# EAGLE library part CONNECTOR_6PIN (library TIcustom)
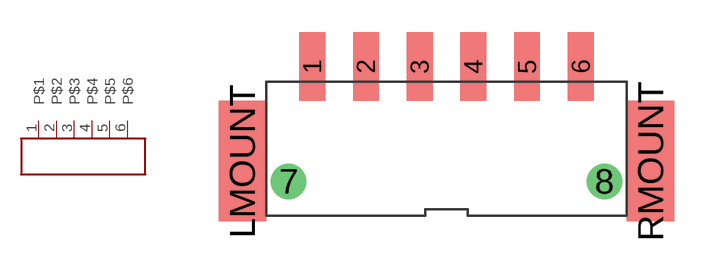
[diagram p3: symbol with the pads of CONNECTOR_6PIN; footprint CONNECTOR_6PIN]

Designator prefix -

## CONNECTOR_6PIN  [CONNECTOR_6PIN]
1  P$1
2  P$2
3  P$3
4  P$4
5  P$5
6  P$6

## Footprint CONNECTOR_6PIN (pad centres in mm)
smd 1.2 x 3.2: 1 -6.25,4.4; 2 -3.75,4.4; 3 -1.25,4.4; 4 1.25,4.4; 5 3.75,4.4; 6 6.25,4.4
drill 1.1: 7 -7.35,-0.95; 8 7.35,-0.95
smd 2.2 x 5.6: LMOUNT -9.5,0; RMOUNT 9.5,0